# Altium schematic symbol library Schlib1.SchLib: 11 symbols
Pins are listed as number, name and electrical type; pins without a type are passive.

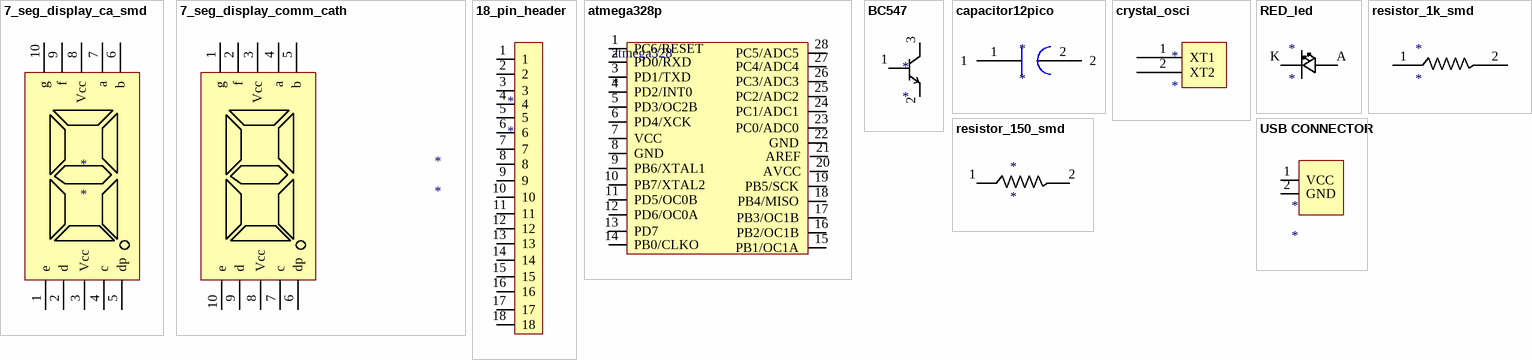
[diagram p0: symbols 7_seg_display_ca_smd to USB CONNECTOR]

## 7_seg_display_ca_smd
designator *
pins: 1 e, 2 d, 3 Vcc, 4 c, 5 dp, 6 b, 7 a, 8 Vcc, 9 f, 10 g

## 7_seg_display_comm_cath
designator *
footprint 7seg
pins: 1 g, 2 f, 3 Vcc, 4 a, 5 b, 6 dp, 7 c, 8 Vcc, 9 d, 10 e

## 18_pin_header
designator *
footprint 18_pin_singleraw_header
pins: 1, 2, 3, 4, 5, 6, 7, 8, 9, 10, 11, 12, 13, 14, 15, 16, 17, 18

## atmega328p
designator atmega328
footprint IC_base_holder
pins: 1 PC6/RESET, 2 PD0/RXD, 3 PD1/TXD, 4 PD2/INT0, 5 PD3/OC2B, 6 PD4/XCK, 7 VCC, 8 GND, 9 PB6/XTAL1, 10 PB7/XTAL2, 11 PD5/OC0B, 12 PD6/OC0A, 13 PD7, 14 PB0/CLKO, 15 PB1/OC1A, 16 PB2/OC1B, 17 PB3/OC1B, 18 PB4/MISO, 19 PB5/SCK, 20 AVCC, 21 AREF, 22 GND, 23 PC0/ADC0, 24 PC1/ADC1, 25 PC2/ADC2, 26 PC3/ADC3, 27 PC4/ADC4, 28 PC5/ADC5

## BC547
designator *
footprint PCBComponent_1
footprint PCBComponent_1
pins: 1 b, 2 E, 3 c

## capacitor12pico
designator *
footprint Capacitor0805_12pF
pins: 1, 2

## crystal_osci
designator *
footprint crystal_16MHz
pins: 1 XT1, 2 XT2

## RED_led
designator *
footprint led_LSM0805 Series_red
pins: A, K

## resistor_1k_smd
designator *
footprint Resistor_ERJUP3_1K
pins: 1, 2

## resistor_150_smd
designator *
footprint Resistor_150_smd
pins: 1, 2

## USB CONNECTOR
designator *
footprint USB_MINI_20
pins: 1 VCC, 2 GND